# Altium integrated library VFD_Clock_lib.IntLib: 21 symbols
Pins are listed as number, name and electrical type; pins without a type are passive.

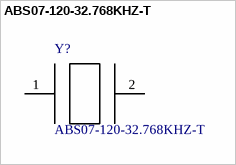
[diagram p0: symbol ABS07-120-32.768KHZ-T]

## ABS07-120-32.768KHZ-T
designator Y?
/ 3.2 x 1.5mm, 32.768KHZ Xtal 6pf, 20ppm, -40+85C, ESR 60kOhm, ST Micro Ref Design Crystal for STM32L /; MF: Abracon; SnapEDA_Link: https://www.snapeda.com/parts/ABS07-120-32.768KHZ-T/Abracon%20LLC/view-part/?ref=snap; Digi-Key_Purchase_URL: https://www.digikey.com/product-detail/en/abracon-llc/ABS07-120-32.768KHZ-T/535-11937-1-ND/3724046?utm_source=snapeda&utm_medium=aggregator&utm_campaign=symbol; MP: ABS07-120-32.768KHZ-T; Package: SMD-2 Abracon LLC; Digi-Key_Part_Number: 535-11937-1-ND; Value: *
footprint *XTAL_ABS07-120-32.768KHZ-T
pins: 1, 2


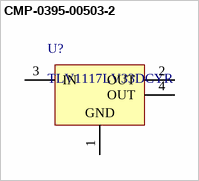
[diagram p1: symbol CMP-0395-00503-2]

## CMP-0395-00503-2
designator U?, comment TLV1117LV33DCYR
Single Output LDO, 1 A, Fixed 3.3 V Output, 2 to 5.5 V Input, 4-pin SOT-223 (DCY), -40 to 125 degC, Green (RoHS & no Sb/Br); Manufacturer: Texas Instruments; Vout Adj(Min)(V): 3.3; Vdo(Typ)(mV): 1200; Iq(Typ)(mA): 0.05; Accuracy(%): 2; Iout(Max)(A): 1; SubFamily: Single Channel LDO; Vin(Max)(V): 5.5; PackageReference: DCY0004A; PackageDescription: 4-Pin Plastic Small Outline, Body 3.5 x 6.5 mm, Pitch 2.3 mm; Vout Adj(Max)(V): 3.3; Mounting Technology: Surface Mount; ComponentLink2Description: Datasheet; ComponentLink1Description: Manufacturer URL; PartNumber: TLV1117LV33DCYR; ComponentLink3Description: Package Specification; ComponentLink1URL: http://www.ti.com/; ComponentLink2URL: http://www.ti.com/general/docs/lit/getliterature.tsp?genericPartNumber=TLV1117LV33&fileType=pdf; Fixed Output Options(V): 3.3; PackageVersion: 4202506/B; Vin(Min)(V): 2; DatasheetVersion: SBVS160A; Eco-Plan: Green (RoHS & no Sb/Br); ComponentLink3URL: http://www.ti.com/litv/pdf/mpds094a; Code_JEDEC: TO-261
footprint DCY0004A_M (SOT223, 4-Leads, Body 6.7x3.7mm, Pitch 2.3mm, IPC Low Density)
footprint DCY0004A_N (SOT223, 4-Leads, Body 6.7x3.7mm, Pitch 2.3mm, IPC Medium Density)
footprint DCY0004A_L (SOT223, 4-Leads, Body 6.7x3.7mm, Pitch 2.3mm, IPC High Density)
pins: 1 GND (power) "Ground pin", 2 OUT (power) "Regulated output voltage pin.", 3 IN (power) "Input pin.", 4 OUT (power) "Regulated output voltage pin."


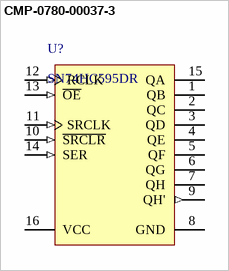
[diagram p2: symbol CMP-0780-00037-3]

## CMP-0780-00037-3
designator U?, comment SN74HC595DR
8-Bit Shift Registers With 3-State Output Registers, D0016A, LARGE T&R; Manufacturer: Texas Instruments; Output Drive (IOL/IOH)(Max)(mA): 7.8/-7.8; Rating: Military; ICC @ Nom Voltage(Max)(mA): 0.08; VCC(Min)(V): 2; tpd @ Nom Voltage(Max)(ns): 34; 3-State Output: Yes; Output Type: CMOS; Voltage(Nom)(V): 6; F @ Nom Voltage(Max)(Mhz): 28; Technology Family: HC; Bits: 4; PackageReference: D0016A; Code_JEDEC: MS-012 variation AC; Generic Part Number: SN74HC595; Operating Temperature Range(C): -40 to 85; DatasheetVersion: SCLS041H; PackageVersion: http://www.ti.com/lit/ml/mpds178g/mpds178g.pdf; Input Type: CMOS; VCC(Max)(V): 6
footprint D0016A_N (SOIC, 16-Leads, Body 10x4mm, Pitch 1.27mm, IPC Medium Density)
footprint D0016A_L (SOIC, 16-Leads, Body 10x4mm, Pitch 1.27mm, IPC High Density)
footprint D0016A_M (SOIC, 16-Leads, Body 10x4mm, Pitch 1.27mm, IPC Low Density)
pins: 1 QB (hiz) "QB Output", 2 QC (hiz) "QC Output", 3 QD (hiz) "QD Output", 4 QE (hiz) "QE Output", 5 QF (hiz) "QF Output", 6 QG (hiz) "QG Output", 7 QH (hiz) "QH Output", 8 GND (power) "Ground Pin", 9 QH' (out) "QH' Output", 10 ~{SRCLR} (in) "S\R\C\L\R\ Input", 11 SRCLK (in) "SRCLK Input", 12 RCLK (in) "RCLK Input", 13 ~{OE} (in) "Output Enable Pin", 14 SER (in) "SER Input", 15 QA (hiz) "QA Output", 16 VCC (power) "Power Pin"


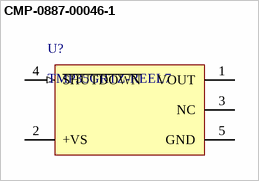
[diagram p3: symbol CMP-0887-00046-1]

## CMP-0887-00046-1
designator U?, comment TMP35GRTZ-REEL7
Voltage Output Temperature Sensor, 2.7 to 5.5 V Supply, Industrial, 5-pin SOT23 (RJ-5), Reel; Manufacturer: Analog Devices; PartNumber: TMP35GRTZ-REEL7; Mounting Technology: Surface Mount; ComponentLink1URL: http://www.analog.com/en/index.html; ComponentLink2Description: Datasheet; ComponentLink4Description: Product URL; Supply Voltage Range: 2.7 to 5.5 V; ComponentLink1Description: Manufacturer URL; ComponentLink4URL: http://www.analog.com/en/mems-sensors/digital-temperature-sensors/tmp35/products/product.html; ComponentLink3URL: http://www.analog.com/static/imported-files/packages/PKG_PDF/SOT-23(RJ)/RJ_5.pdf; PackageVersion: 121608-A , 12/2008; ComponentLink3Description: Package Specification; PackageReference: RJ-5; ComponentLink2URL: http://www.analog.com/static/imported-files/data_sheets/TMP35_36_37.pdf; DatasheetVersion: Rev. F; Packing: Reel; Code_JEDEC: MO-178-AA; PackageDescription: 5-Pin Small Outline Transistor Package, Body 2.9 x 1.6 mm, Pitch 0.95 mm
footprint ADI-RJ-5_M (SOT-23, 5-Leads, Body 2.9x1.6mm, Pitch 0.95mm, IPC Low Density)
footprint ADI-RJ-5_N (SOT-23, 5-Leads, Body 2.9x1.6mm, Pitch 0.95mm, IPC Medium Density)
footprint ADI-RJ-5_L (SOT-23, 5-Leads, Body 2.9x1.6mm, Pitch 0.95mm, IPC High Density)
pins: 1 VOUT (hiz), 2 +VS (power), 3 NC, 4 ~{SHUTDOWN} (in), 5 GND (power)


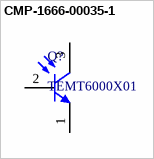
[diagram p4: symbol CMP-1666-00035-1]

## CMP-1666-00035-1
designator Q?, comment TEMT6000X01
Ambient Light Sensor / , 100 mW, -40 to 100 degC, 3-Pin SMD, RoHS, Tape and Reel; Nominal Vf: 2 V; Luminous Intensity: 54 mcd; Forward Current: 20 mA; Viewing Angle: 130 degrees; Lens Style: Diffused; Power Rating: 75 mW; Colour: Red; Case\Package: 0603; Case Code (Imperial): 0603; Package Quantity: 3000; Packaging: Tape and Reel; Width: 0.8 mm; ComponentLink2URL: http://www.vishay.com/docs/81579/temt6000.pdf; ComponentLink1Description: Manufacturer URL; ComponentLink2Description: Datasheet; Height: 0.8 mm; Mount: Surface Mount; Pins: 2; Case Code (Metric): 1608; Max Operating Temperature: 85 degC; DatasheetVersion: Rev. 1.9, 08/2011; Forward Voltage: 2 V; ComponentLink1URL: http://www.vishay.com/; Radiation Hardening: No; RoHSCompliant: true; Length: 1.6 mm; PackageReference: 1206; Min Operating Temperature: -55 degC; PackageDescription: 3-Pin Surface Mount Device, Body 4 x 2 mm; Illumination Colour: Red
footprint VSIL-TEMT6000X01_V (SMD, 3-Leads, Body 4x2mm)
pins: 1 E, 2 B, 3 C


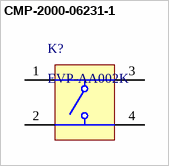
[diagram p5: symbol CMP-2000-06231-1]

## CMP-2000-06231-1
designator K?, comment EVP-AA002K
Light Touch Switch, 100 mOhm, -40 to 85 degC, 4-Pin SMD, RoHS, Tape and Reel; Manufacturer: Panasonic; Electrical Life: 1000000Cycles; Switch Configuration: N.O.; COO: JP; Actuator Color: Black; Contact Rating @ Voltage: 0.02@15VDCA; Dielectric Strength: 250VAC; Actuator Length: 0.3mm; Ground Terminal: No; Operating Force: 1N; Pole Throw Configuration: SPST; Body Orientation: Straight; Illumination Type: N/R; Maximum DC Voltage Rating: 15V; Actuator Style: RectangularButton; Maximum AC Voltage Rating: N/A; Package Description: 4-Pin Surface Mount Device, Body 2.9 x 3.5 mm, Pitch 1.45 mm; Family: EVPAA; Contact Material: N/A; Mounting: SurfaceMount,J-Bend; Datasheet Version: 04/2016; Housing Material: N/A; Product Weight: N/A; RoHS: Yes; Mechanical Life: N/A; Minimum Insulation Resistance: 100MOhm; Operating Temperature: -40to85C; Mounting Technology: SurfaceMount; HTS: 8507204000; Dimension: 4.3x2.9x1.7mm; Maximum Contact Resistance: 100mOhm; Base Material: N/A; Seal Location: N/A; Supplier Standard Pack: 5,000; Supplier: PanasonicIndustrialDevices; Datasheet URL: https://industrial.panasonic.com/cdbs/www-data/pdf/ATV0000/ATV0000C1.pdf; Packaging: EmbossedTapeandReel; Manufacturer URL: http://www.panasonic.com/; Seal Description: N/A; Contact Plating: N/A; ECCN: EAR99; Package Reference: EVPAA; Type: LightTouch; Part No: EVP-AA002K
footprint PNSC-EVPAA_V (SMD, 4-Leads, Body 2.9x3.5mm, Pitch 1.45mm)
pins: 1 A, 2 B, 3 A', 4 B'


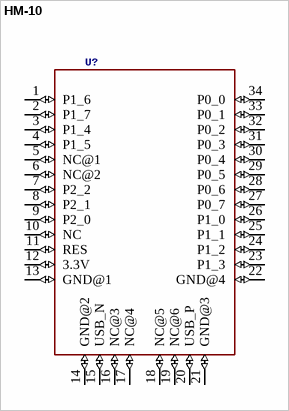
[diagram p6: symbol HM-10]

## HM-10
designator U?
GateName_1: G$1; SymbolName_1: HM-10; LibraryName: HM-10_BLE; DeviceSetName: HM-10; Package: HM-10
footprint HM-10
pins: 1 P1_6 (io), 2 P1_7 (io), 3 P1_4 (io), 4 P1_5 (io), 5 NC@1 (io), 6 NC@2 (io), 7 P2_2 (io), 8 P2_1 (io), 9 P2_0 (io), 10 NC (io), 11 RES (io), 12 3.3V (io), 13 GND@1 (io), 14 GND@2 (io), 15 USB_N (io), 16 NC@3 (io), 17 NC@4 (io), 18 NC@5 (io), 19 NC@6 (io), 20 USB_P (io), 21 GND@3 (io), 22 GND@4 (io), 23 P1_3 (io), 24 P1_2 (io), 25 P1_1 (io), 26 P1_0 (io), 27 P0_7 (io), 28 P0_6 (io), 29 P0_5 (io), 30 P0_4 (io), 31 P0_3 (io), 32 P0_2 (io), 33 P0_1 (io), 34 P0_0 (io)


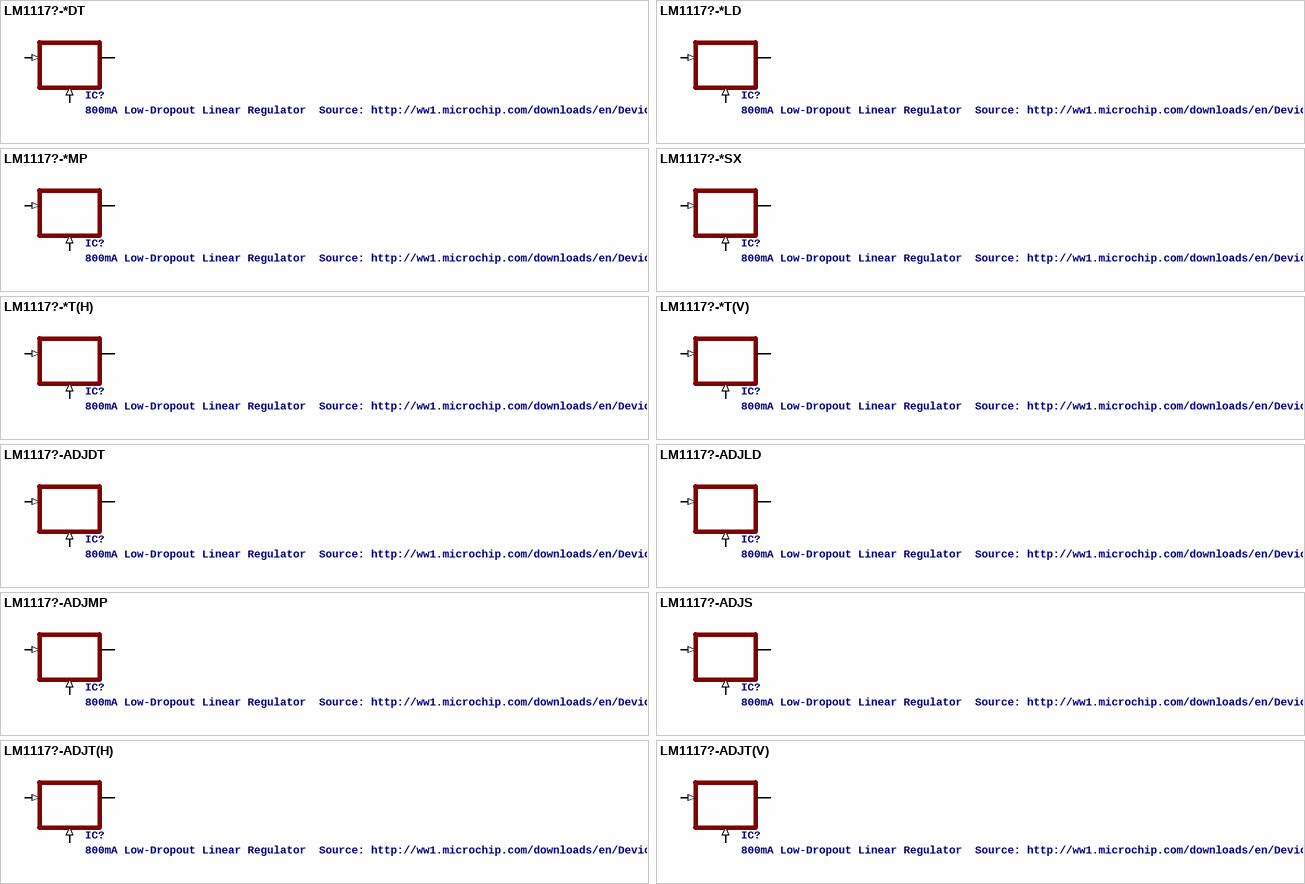
[diagram p7: symbols LM1117?-*DT to LM1117?-ADJT(V)]

## LM1117?-*DT
designator IC?, comment 800mA Low-Dropout Linear Regulator  Source: http://ww1.microchip.com/downloads/en/DeviceDoc/39760d.pdf
MPN: LM1117DT-1.8; MPN: LM1117DT-2.5; MPN: LM1117DT-3.3; MPN: LM1117DT-5.0; GateName_1: G$1; SymbolName_1: LM1117; DeviceName: DT; DeviceSetName: LM1117?-*; MF: Texas Instruments; LibraryName: lm1117; Package: TO252; OC_FARNELL: 1798351; OC_NEWARK: 73R9726; OC_FARNELL: 2323582; OC_NEWARK: 41K3428; OC_FARNELL: 1469048; OC_NEWARK: 41K3430; OC_FARNELL: 9486283; OC_NEWARK: 41K3431
footprint TO252
pins: 1 GND (in), 2 IN (in), 3 OUT

## LM1117?-*LD
designator IC?, comment 800mA Low-Dropout Linear Regulator  Source: http://ww1.microchip.com/downloads/en/DeviceDoc/39760d.pdf
MPN: LM1117LD-1.8; MPN: LM1117LD-2.5; MPN: LM1117LD-3.3; GateName_1: G$1; SymbolName_1: LM1117; DeviceName: LD; DeviceSetName: LM1117?-*; MF: Texas Instruments; LibraryName: lm1117; Package: WSON8-4X4; OC_FARNELL: 1798353; OC_NEWARK: unknown; OC_FARNELL: unknown; OC_FARNELL: 8221901; OC_NEWARK: 38K3616
footprint WSON8-4X4
pins: 1 GND (in), 2 3 4 IN (in), 5 6 7 EXP OUT

## LM1117?-*MP
designator IC?, comment 800mA Low-Dropout Linear Regulator  Source: http://ww1.microchip.com/downloads/en/DeviceDoc/39760d.pdf
MPN: LM1117MP-1.8; MPN: LM1117MP-2.5; MPN: LM1117MP-3.3; MPN: LM1117MP-5.0; GateName_1: G$1; SymbolName_1: LM1117; DeviceName: MP; DeviceSetName: LM1117?-*; MF: Texas Instruments; LibraryName: lm1117; Package: SOT223; OC_FARNELL: 1469053; OC_NEWARK: 41K3467; OC_FARNELL: 1564629; OC_NEWARK: 41K3468; OC_FARNELL: 9778195; OC_NEWARK: 28X3416; OC_FARNELL: 9778209; OC_NEWARK: 28X3417
footprint SOT223
pins: 1 GND (in), 2 4 OUT, 3 IN (in)

## LM1117?-*SX
designator IC?, comment 800mA Low-Dropout Linear Regulator  Source: http://ww1.microchip.com/downloads/en/DeviceDoc/39760d.pdf
MPN: LM1117SX-3.3; MPN: LM1117SX-5.0; GateName_1: G$1; SymbolName_1: LM1117; DeviceName: SX; DeviceSetName: LM1117?-*; MF: Texas Instruments; LibraryName: lm1117; Package: TO263-3; OC_FARNELL: 2323594; OC_NEWARK: 41K3484; OC_FARNELL: 2383003; OC_NEWARK: unknown
footprint TO263-3
pins: 1 GND (in), 2 TAB OUT, 3 IN (in)

## LM1117?-*T(H)
designator IC?, comment 800mA Low-Dropout Linear Regulator  Source: http://ww1.microchip.com/downloads/en/DeviceDoc/39760d.pdf
MPN: LM1117T-2.5; MPN: LM1117T-3.3; MPN: LM1117T-5.0; GateName_1: G$1; SymbolName_1: LM1117; DeviceName: T(H); DeviceSetName: LM1117?-*; MF: Texas Instruments; LibraryName: lm1117; Package: TO220H; OC_FARNELL: 1798354; OC_NEWARK: 75R2090; OC_FARNELL: 1469056; OC_NEWARK: 13B5347; OC_FARNELL: 1215183; OC_NEWARK: 41K3491
footprint TO220H
pins: 1 GND (in), 2 OUT, 3 IN (in)

## LM1117?-*T(V)
designator IC?, comment 800mA Low-Dropout Linear Regulator  Source: http://ww1.microchip.com/downloads/en/DeviceDoc/39760d.pdf
MPN: LM1117T-2.5; MPN: LM1117T-3.3; MPN: LM1117T-5.0; GateName_1: G$1; SymbolName_1: LM1117; DeviceName: T(V); DeviceSetName: LM1117?-*; MF: Texas Instruments; LibraryName: lm1117; Package: TO220V; OC_FARNELL: 1798354; OC_NEWARK: 75R2090; OC_FARNELL: 1469056; OC_NEWARK: 13B5347; OC_FARNELL: 1215183; OC_NEWARK: 41K3491
footprint TO220V
pins: 1 GND (in), 2 OUT, 3 IN (in)

## LM1117?-ADJDT
designator IC?, comment 800mA Low-Dropout Linear Regulator  Source: http://ww1.microchip.com/downloads/en/DeviceDoc/39760d.pdf
MPN: LM1777DT-ADJ; GateName_1: G$1; SymbolName_1: LM1117-ADJ; DeviceName: DT; DeviceSetName: LM1117?-ADJ; MF: Texas Instruments; LibraryName: lm1117; Package: TO252; OC_FARNELL: 9486267; OC_NEWARK: 41K3426
footprint TO252
pins: 1 ADJ (in), 2 OUT, 3 IN (in)

## LM1117?-ADJLD
designator IC?, comment 800mA Low-Dropout Linear Regulator  Source: http://ww1.microchip.com/downloads/en/DeviceDoc/39760d.pdf
MPN: LM1777LD-ADJ; GateName_1: G$1; SymbolName_1: LM1117-ADJ; DeviceName: LD; DeviceSetName: LM1117?-ADJ; MF: Texas Instruments; LibraryName: lm1117; Package: WSON8-4X4; OC_FARNELL: unknown; OC_NEWARK: unknown
footprint WSON8-4X4
pins: 1 ADJ (in), 2 3 4 IN (in), 5 6 7 EXP OUT

## LM1117?-ADJMP
designator IC?, comment 800mA Low-Dropout Linear Regulator  Source: http://ww1.microchip.com/downloads/en/DeviceDoc/39760d.pdf
MPN: LM1777MP-ADJ; GateName_1: G$1; SymbolName_1: LM1117-ADJ; DeviceName: MP; DeviceSetName: LM1117?-ADJ; MF: Texas Instruments; LibraryName: lm1117; Package: SOT223; OC_FARNELL: 9778187; OC_NEWARK: 13B5337
footprint SOT223
pins: 1 ADJ (in), 2 4 OUT, 3 IN (in)

## LM1117?-ADJS
designator IC?, comment 800mA Low-Dropout Linear Regulator  Source: http://ww1.microchip.com/downloads/en/DeviceDoc/39760d.pdf
MPN: LM1777S-ADJ; GateName_1: G$1; SymbolName_1: LM1117-ADJ; DeviceName: S; DeviceSetName: LM1117?-ADJ; MF: Texas Instruments; LibraryName: lm1117; Package: TO263-3; OC_FARNELL: 8221910; OC_NEWARK: 41K3478
footprint TO263-3
pins: 1 ADJ (in), 2 TAB OUT, 3 IN (in)

## LM1117?-ADJT(H)
designator IC?, comment 800mA Low-Dropout Linear Regulator  Source: http://ww1.microchip.com/downloads/en/DeviceDoc/39760d.pdf
MPN: LM1777T-ADJ; GateName_1: G$1; SymbolName_1: LM1117-ADJ; DeviceName: T(H); DeviceSetName: LM1117?-ADJ; MF: Texas Instruments; LibraryName: lm1117; Package: TO220H; OC_FARNELL: 9485805; OC_NEWARK: 13B5345
footprint TO220H
pins: 1 ADJ (in), 2 OUT, 3 IN (in)

## LM1117?-ADJT(V)
designator IC?, comment 800mA Low-Dropout Linear Regulator  Source: http://ww1.microchip.com/downloads/en/DeviceDoc/39760d.pdf
MPN: LM1777T-ADJ; GateName_1: G$1; SymbolName_1: LM1117-ADJ; DeviceName: T(V); DeviceSetName: LM1117?-ADJ; MF: Texas Instruments; LibraryName: lm1117; Package: TO220V; OC_FARNELL: 9485805; OC_NEWARK: 13B5345
footprint TO220V
pins: 1 ADJ (in), 2 OUT, 3 IN (in)


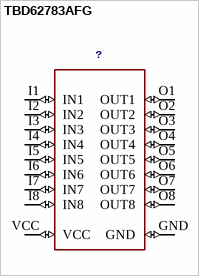
[diagram p8: symbol TBD62783AFG]

## TBD62783AFG
designator ?
GateName_1: G$1; SymbolName_1: TBD62783AFG; LibraryName: TBD62783AFG; DeviceSetName: TBD62783AFG; Package: TBD62783AFG
footprint TBD62783AFG
pins: GND (io), I1 IN1 (io), I2 IN2 (io), I3 IN3 (io), I4 IN4 (io), I5 IN5 (io), I6 IN6 (io), I7 IN7 (io), I8 IN8 (io), O1 OUT1 (io), O2 OUT2 (io), O3 OUT3 (io), O4 OUT4 (io), O5 OUT5 (io), O6 OUT6 (io), O7 OUT7 (io), O8 OUT8 (io), VCC (io)


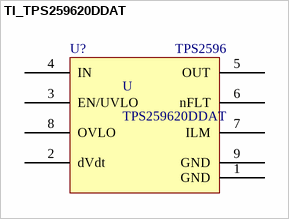
[diagram p9: symbol TI_TPS259620DDAT]

## TI_TPS259620DDAT
designator U, comment TPS259620DDAT
Texas Instruments TPS259620DDAT; ComponentLink1Description: TI Link; ComponentLink1URL: http://www.ti.com/product/TPS2596
footprint TPS259620DDAT - duplicate
pins: 1 GND, 2 dVdt, 3 EN/UVLO, 4 IN, 5 OUT, 6 nFLT, 7 ILM, 8 OVLO, 9 GND
text: U?; TPS2596